# Altium footprint library PcbLib.PcbLib: 34 footprints (part 2 of 3)
Each footprint in its own frame and in the unit in brackets; x right, y up, seen from the top. Pads: shape width x height; smd on the part's side, far side on the other; paste and mask are expansions set on the pad; w line width, h text height; cw(c..) or ccw(c..) is an arc to the next point about the centre after c.
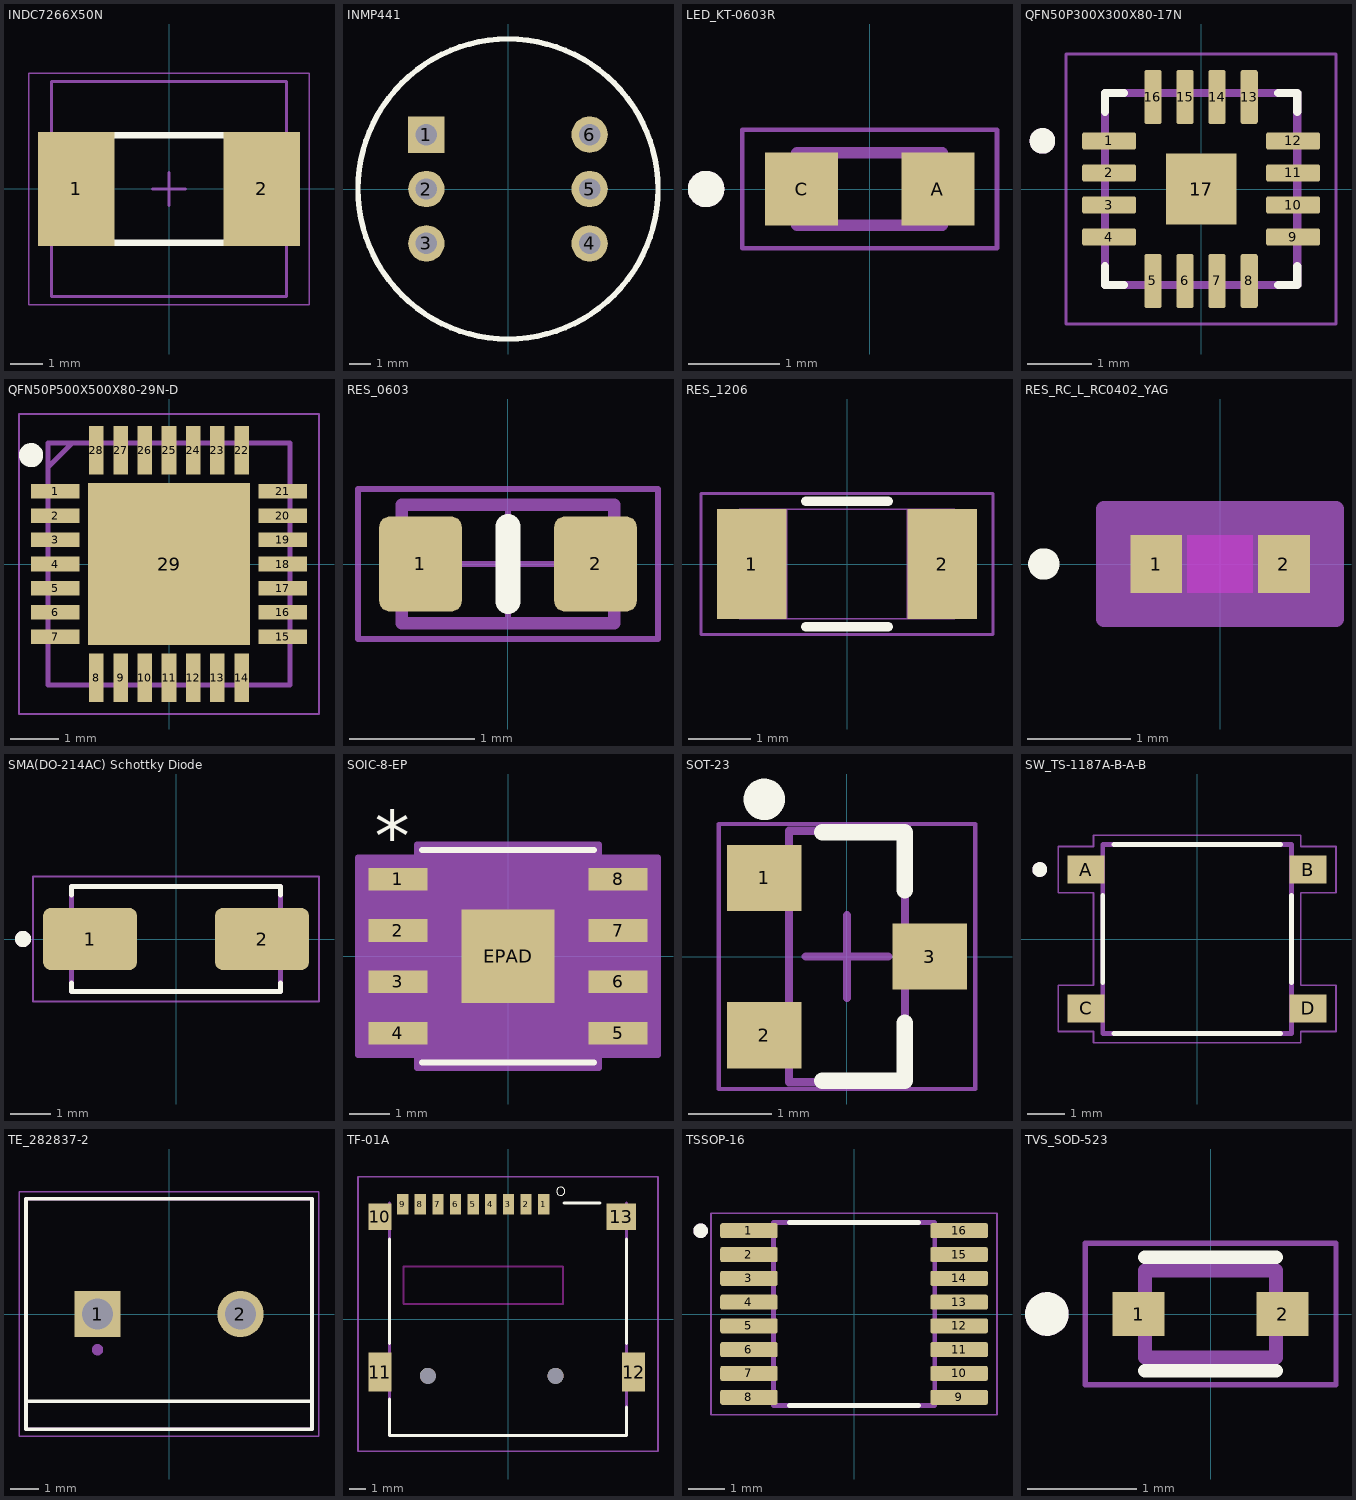
[diagram p1: the footprints below, top view; thin cyan lines are the x and y axes]

## INDC7266X50N [mm] "Chip Inductor, 2-Leads, Body 7.20x6.60mm, IPC Medium Density"
height 5
pads (2):
  rect 2.35x3.5 smd: 1(-2.85,0) 2(2.85,0)
Top Overlay:
  lines w0.2: -2.95,-1.65 2.95,-1.65 ; -2.95,1.65 2.95,1.65
Top Assembly:
  lines w0.1: -3.6,-3.3 -3.6,3.3 3.6,3.3 3.6,-3.3 -3.6,-3.3
Top Courtyard:
  lines w0.05: -4.3,-3.55 -4.3,3.55 4.3,3.55 4.3,-3.55 -4.3,-3.55
  lines w0.1: -0.5,0 0.5,0 ; 0,-0.5 0,0.5
3D body "INDC7266X50N.step": height 5, standoff 0, extent -3.6,-3.3 3.6,3.3

## INMP441 [mm]
pads (6):
  rect 1.7x1.7 hole 1: 1(-3.81,2.54)
  round 1.7 hole 1: 2(-3.81,0) 3(-3.81,-2.54) 4(3.81,-2.54) 5(3.81,0) 6(3.81,2.54)
Top Overlay:
  circle w0.254: c0,0 r7
3D body "INMP441 I2S Microphone Module v15.step": height 6.59, standoff -4.66, extent -6.883,-7.12 6.883,7.12

## LED_KT-0603R [mm]
height 0.65
pads (2):
  rect 0.8x0.8 smd: A(0.75,0) C(-0.75,0)
Top Overlay:
  circle w0.2: c-1.8,0 r0.1
Mechanical 13:
  circle w0.2: c-1.8,0 r0.1
  lines w0.127: -0.8,-0.4 0.8,-0.4 0.8,0.4 -0.8,0.4 -0.8,-0.4
Mechanical 15:
  lines w0.05: -1.4,-0.65 1.4,-0.65 1.4,0.65 -1.4,0.65 -1.4,-0.65
3D body "step_temp.STEP": height 0.65, standoff 0, extent -0.8,-0.4 0.8,0.4

## QFN50P300X300X80-17N [mm]
pads (17):
  rrect25% 0.84x0.27 smd: 1(-1.435,0.75) 2(-1.435,0.25) 3(-1.435,-0.25) 4(-1.435,-0.75) 9(1.435,-0.75) 10(1.435,-0.25) 11(1.435,0.25) 12(1.435,0.75)
  rrect25% 0.27x0.84 smd: 5(-0.75,-1.435) 6(-0.25,-1.435) 7(0.25,-1.435) 8(0.75,-1.435) 13(0.75,1.435) 14(0.25,1.435) 15(-0.25,1.435) 16(-0.75,1.435)
  rect 1.1x1.1 smd paste-0.2: 17(0,0)
Top Overlay:
  circle w0.2: c-2.475,0.75 r0.1
  lines w0.127: -1.5,-1.205 -1.5,-1.5 -1.205,-1.5 ; -1.5,1.205 -1.5,1.5 -1.205,1.5 ; 1.205,-1.5 1.5,-1.5 1.5,-1.205 ; 1.205,1.5 1.5,1.5 1.5,1.205
Mechanical 13:
  circle w0.2: c-2.475,0.75 r0.1
  lines w0.127: -1.5,-1.5 -1.5,1.5 1.5,1.5 1.5,-1.5 -1.5,-1.5
Mechanical 15:
  lines w0.05: -2.105,-2.105 -2.105,2.105 2.105,2.105 2.105,-2.105 -2.105,-2.105
3D body "step_temp.STEP": height 0.9, standoff 0, extent -1.5,-1.5 1.5,1.5

## QFN50P500X500X80-29N-D [mm]
pads (29):
  rect 1x0.3 smd: 1(-2.35,1.5) 2(-2.35,1) 3(-2.35,0.5) 4(-2.35,0) 5(-2.35,-0.5) 6(-2.35,-1) 7(-2.35,-1.5) 15(2.35,-1.5) 16(2.35,-1) 17(2.35,-0.5) 18(2.35,0) 19(2.35,0.5) 20(2.35,1) 21(2.35,1.5)
  rect 0.3x1 smd: 8(-1.5,-2.35) 9(-1,-2.35) 10(-0.5,-2.35) 11(0,-2.35) 12(0.5,-2.35) 13(1,-2.35) 14(1.5,-2.35) 22(1.5,2.35) 23(1,2.35) 24(0.5,2.35) 25(0,2.35) 26(-0.5,2.35) 27(-1,2.35) 28(-1.5,2.35)
  rect 3.35x3.35 smd: 29(0,0)
Top Overlay:
  circle w0.25: c-2.85,2.25 r0.125
Mechanical 13:
  lines w0.1: -2.5,2 -2,2.5 ; -2.5,-2.5 2.5,-2.5 2.5,2.5 -2.5,2.5 -2.5,-2.5
Mechanical 15:
  lines w0.05: -3.1,-3.1 3.1,-3.1 3.1,3.1 -3.1,3.1 -3.1,-3.1
3D body "CP2102N-A02-GQFN28R.stp": height 0.8, standoff 0, extent -2.55,-2.55 2.55,2.55

## RES_0603 [mm]
pads (2):
  rrect25% 0.66x0.76 smd: 1(-0.7,0) 2(0.7,0)
Top Overlay:
  lines w0.2: 0,-0.3 0,0.3
Top Assembly:
  lines w0.1: -0.85,-0.475 0.85,-0.475 0.85,0.475 -0.85,0.475 -0.85,-0.475
Top Courtyard:
  lines w0.05: -0.475,0 0.475,0 ; 0,-0.475 0,0.475 ; -1.2,-0.6 1.2,-0.6 1.2,0.6 -1.2,0.6 -1.2,-0.6
Top Designator:
  text ".Designator" at -1.27,-0.127 h0.6
3D body "RES0603.step": height 0.45, standoff 0, extent -0.8,-0.4 0.8,0.4

## RES_1206 [mil]
pads (2):
  rect 44x69 smd paste+0 mask+0: 1(-60,0) 2(60,0)
Top Overlay:
  lines w6: -25.89,-39.5 25.89,-39.5 ; -25.89,39.5 25.89,39.5
Mechanical 13:
  lines w1: -68,-34.5 -68,34.5 ; -68,-34.5 -38,-34.5 -38,34.5 -68,34.5 ; -68,-34.5 68,-34.5 ; -68,-34.5 -68,34.5 ; -68,34.5 68,34.5 ; 68,-34.5 38,-34.5 38,34.5 68,34.5 ; 68,-34.5 68,34.5 ; 68,-34.5 68,34.5
Mechanical 15:
  lines w1.97: -92,-44.5 -92,44.5 92,44.5 92,-44.5 -92,-44.5
3D body "BO_CR1206.step": height 30, standoff 0, extent -67.99,-34.49 67.99,34.49

## RES_RC_L_RC0402_YAG [mil]
pads (2):
  rect 19.78x22 smd paste+0 mask+0: 1(-24.39,0) 2(24.39,0)
Top Layer keep-out:
  region: -12.5,-9 -12.5,9 12.5,9 12.5,-9
Top Overlay:
  circle w6: c-67.28,0 r3
  text ".Designator" at -137.5,-25 h50
Keep-Out Layer:
  region: -12.5,-11 -12.5,11 12.5,11 12.5,-11
Mechanical 13:
  circle w1: c-19.39,0 r3
  lines w1: -20.5,-11 -20.5,11 ; -20.5,-11 -14.5,-11 -14.5,11 -20.5,11 ; -20.5,-11 20.5,-11 ; -20.5,-11 -20.5,11 ; -20.5,11 20.5,11 ; 20.5,-11 14.5,-11 14.5,11 20.5,11 ; 20.5,-11 20.5,11 ; 20.5,-11 20.5,11
  text ".Designator" at -137.5,-25 h50
Mechanical 15:
  region: 44.28,-21 -44.28,-21 -44.28,21 44.28,21
  lines w6: -44.28,-21 -44.28,21 44.28,21 44.28,-21 -44.28,-21
3D body "RES_RC_L_RC0402_YAG.step": height 22.01, standoff 0, extent -20.51,-10.98 20.51,10.98

## SMA(DO-214AC) Schottky Diode [mm]
height 2.4
pads (2):
  rrect25% 2.33x1.55 smd: 1(-2.135,0) 2(2.135,0)
Top Overlay:
  circle w0.2: c-3.8,0 r0.1
  lines w0.127: -2.598,-1.095 -2.598,-1.302 2.598,-1.302 2.598,-1.095 ; -2.598,1.095 -2.598,1.302 2.598,1.302 2.598,1.095
Mechanical 13:
  circle w0.2: c-3.8,0 r0.1
  lines w0.127: -2.598,-1.302 -2.598,1.302 2.598,1.302 2.598,-1.302 -2.598,-1.302
Mechanical 15:
  lines w0.05: -3.55,-1.552 3.55,-1.552 3.55,1.552 -3.55,1.552 -3.55,-1.552
3D body "step_temp.STEP": height 2.4, standoff 0, extent -2.598,-1.302 2.598,1.302

## SOIC-8-EP [mil]
pads (9):
  rect 57.5x22 smd paste+0 mask+0: 1(-107.25,75) 2(-107.25,25) 3(-107.25,-25) 4(-107.25,-75) 5(107.25,-75) 6(107.25,-25) 7(107.25,25) 8(107.25,75)
  rect 91x91 smd paste+0 mask+0: EPAD(0,0)
Top Overlay:
  lines w6: -83.5,-103.5 83.5,-103.5 ; -83.5,103.5 83.5,103.5
  text "*" at -129.75,92 h50
  text ".Designator" at -165,150 h50
Mechanical 13:
  lines w1: -12,98.5 ccw(c0,98.5) 12,98.5 ; -122,-85 -78.5,-85 -78.5,-65 -122,-65 -122,-85 ; -122,-35 -78.5,-35 -78.5,-15 -122,-15 -122,-35 ; -122,15 -78.5,15 -78.5,35 -122,35 -122,15 ; -122,65 -78.5,65 -78.5,85 -122,85 -122,65 ; -78.5,-98.5 -78.5,98.5 78.5,98.5 78.5,-98.5 -78.5,-98.5 ; 78.5,-85 122,-85 122,-65 78.5,-65 78.5,-85 ; 78.5,-35 122,-35 122,-15 78.5,-15 78.5,-35 ; 78.5,15 122,15 122,35 78.5,35 78.5,15 ; 78.5,65 122,65 122,85 78.5,85 78.5,65
  text ".Designator" at -165,150 h50
  text "*" at -76,45.5 h50
Mechanical 15:
  region: -88.5,-96 -146,-96 -146,96 -88.5,96 -88.5,108.5 88.5,108.5 88.5,96 146,96 146,-96 88.5,-96 88.5,-108.5 -88.5,-108.5
  lines w6: -146,-96 -88.5,-96 -88.5,-108.5 88.5,-108.5 88.5,-96 146,-96 146,96 88.5,96 88.5,108.5 -88.5,108.5 -88.5,96 -146,96 -146,-96
3D body "SOP8L_EP1_RIT.step": height 69.09, standoff -2.01, extent -122.01,-98.5 122.01,98.5

## SOT-23 [mm]
pads (3):
  rect 0.9x0.8 smd: 1(-1,0.95) 2(-1,-0.95) 3(1,0)
Top Overlay:
  circle w0.25: c-1,1.9 r0.125
  lines w0.2: -0.3,-1.5 0.7,-1.5 0.7,-0.8 ; -0.3,1.5 0.7,1.5 0.7,0.8
Mechanical 13:
  lines w0.1: -0.7,-1.52 -0.7,1.52 0.7,1.52 0.7,-1.52 -0.7,-1.52
Mechanical 15:
  lines w0.05: -1.55,-1.6 -1.55,1.6 1.55,1.6 1.55,-1.6 -1.55,-1.6
  lines w0.1: -0.5,0 0.5,0 ; 0,-0.5 0,0.5
3D body "SOT95P237X111-3L.step": height 1.11, standoff 0, extent -1.42,-1.52 1.42,1.52

## SW_TS-1187A-B-A-B [mm]
pads (4):
  rect 1x0.75 smd: A(-3,1.875) B(3,1.875) C(-3,-1.875) D(3,-1.875)
Top Overlay:
  circle w0.2: c-4.25,1.875 r0.1
  lines w0.127: -2.55,-1.18 -2.55,1.18 ; -2.25,-2.55 2.25,-2.55 ; -2.25,2.55 2.25,2.55 ; 2.55,-1.18 2.55,1.18
Mechanical 13:
  circle w0.2: c-4.25,1.875 r0.1
  lines w0.127: -2.55,-2.55 -2.55,2.55 2.55,2.55 2.55,-2.55 -2.55,-2.55
Mechanical 15:
  lines w0.05: -3.75,-2.5 -3.75,-1.25 -2.8,-1.25 -2.8,1.25 -3.75,1.25 -3.75,2.5 -2.8,2.5 -2.8,2.8 2.8,2.8 2.8,2.5 3.75,2.5 3.75,1.25 2.8,1.25 2.8,-1.25 3.75,-1.25 3.75,-2.5 2.8,-2.5 2.8,-2.8 -2.8,-2.8 -2.8,-2.5 -3.75,-2.5
3D body "TS-1187A.step": height 1.4, standoff 0, extent -3.25,-2.55 3.25,2.55

## TE_282837-2 [mm]
pads (2):
  rect 1.65x1.65 / inner round 1.65 / far side rect 1.65x1.65 hole 1.1: 1(-2.54,0)
  round 1.65 hole 1.1: 2(2.54,0)
Top Overlay:
  lines w0.127: -5.08,-3.1 5.08,-3.1 ; -5.08,-3.1 -5.08,4.1 5.08,4.1 5.08,-3.1 ; -5.08,-3.1 -5.08,-4.1 5.08,-4.1 5.08,-3.1
Mechanical 13:
  circle w0.2: c-2.54,-1.27 r0.1
  lines w0.127: -5.08,-4.1 -5.08,4.1 5.08,4.1 5.08,-4.1 -5.08,-4.1
Mechanical 15:
  lines w0.05: -5.33,-4.35 -5.33,4.35 5.33,4.35 5.33,-4.35 -5.33,-4.35
3D body "step_temp.STEP": height 10, standoff -3.5, extent -5.68,-4.1 5.08,4.1

## TF-01A [mm]
pads (15):
  rect 0.7x1.3 smd: 1(2.23,7.174) 2(1.13,7.174) 3(0.03,7.174) 4(-1.07,7.174) 5(-2.17,7.174) 6(-3.27,7.174) 7(-4.37,7.174) 8(-5.47,7.174) 9(-6.57,7.174)
  rect 1.448x1.651 smd: 10(-7.989,6.4)
  rect 1.448x2.438 smd: 11(-7.989,-3.3) 12(7.836,-3.3)
  rect 1.854x1.651 smd: 13(7.061,6.4)
  round 1 hole 1 unplated: ""(-5.004,-3.531) ""(2.972,-3.531)
Top Overlay:
  circle w0: c3.296,7.984 r0.254
  lines w0.203: -7.4,-5 -7.399,-7.25 7.399,-7.263 7.4,-5.5 ; -7.4,-1.5 -7.4,5 ; 3.5,7.25 5.738,7.25 ; 7.4,-1.5 7.4,5
Keep-Out Layer:
  lines w0.127: -6.528,0.94 3.429,0.94 3.429,3.302 -6.528,3.302 -6.528,0.94
Mechanical 13:
  lines w0.1: -9.36,-8.25 9.36,-8.25 9.36,8.9 -9.36,8.9 -9.36,-8.25
  lines w0.2: -7.4,7.25 -7.4,-7.25 7.4,-7.25 7.4,7.25
3D body "step_temp.STEP": height 2, standoff -0.45, extent -8.091,-7.541 8.009,7.659

## TSSOP-16 [mm]
pads (16):
  rrect25% 1.57x0.41 smd: 1(-2.87,2.275) 2(-2.87,1.625) 3(-2.87,0.975) 4(-2.87,0.325) 5(-2.87,-0.325) 6(-2.87,-0.975) 7(-2.87,-1.625) 8(-2.87,-2.275) 9(2.87,-2.275) 10(2.87,-1.625) 11(2.87,-0.975) 12(2.87,-0.325) 13(2.87,0.325) 14(2.87,0.975) 15(2.87,1.625) 16(2.87,2.275)
Top Overlay:
  circle w0.2: c-4.19,2.275 r0.1
  lines w0.127: -1.765,-2.5 1.765,-2.5 ; -1.765,2.5 1.765,2.5
Mechanical 13:
  circle w0.2: c-4.19,2.275 r0.1
  lines w0.127: -2.2,-2.5 2.2,-2.5 2.2,2.5 -2.2,2.5 -2.2,-2.5
Mechanical 15:
  lines w0.05: -3.905,-2.75 3.905,-2.75 3.905,2.75 -3.905,2.75 -3.905,-2.75
3D body "step_temp.STEP": height 1.2, standoff 0, extent -3.2,-2.5 3.2,2.5

## TVS_SOD-523 [mm]
height 0.7
pads (2):
  rect 0.48x0.4 smd: 1(-0.66,0) 2(0.66,0)
Top Overlay:
  circle w0.2: c-1.5,0 r0.1
  lines w0.127: -0.6,-0.52 0.6,-0.52 ; -0.6,0.52 0.6,0.52
Mechanical 13:
  circle w0.2: c-1.5,0 r0.1
  lines w0.127: -0.6,-0.4 -0.6,0.4 0.6,0.4 0.6,-0.4 -0.6,-0.4
Mechanical 15:
  lines w0.05: -1.15,-0.65 1.15,-0.65 1.15,0.65 -1.15,0.65 -1.15,-0.65
3D body "step_temp.STEP": height 0.7, standoff 0, extent -0.8,-0.4 0.8,0.4